# EAGLE library part 62505022021 (library Wurth_Elektronik_Electromechanic_Wire_to_Board_Connectors_rev15c)
WR-BHD 2.00mm Male Box Header With Lever, 50 Pins=>Code : Con_WTB_BHD_2.00_Male_THT_62505022021 <http://katalog.we-online.de/media/thumbs2/eican/thb_Con_WTB_BHD_2.00_Male_THT_6250xx22021_pf2.jpg> Details see: http://katalog.we-online.de/en/em/625_0xx_220_21 Created 2014-06-05, Karrer Zheng 2014 (C) Würth Elektronik
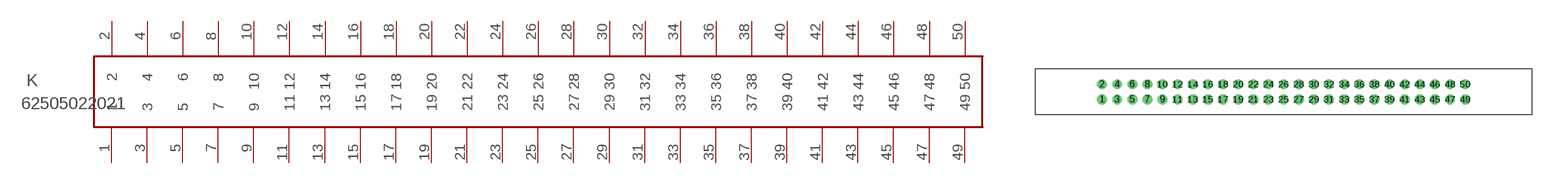
[diagram p261: symbol with the pads of 62505022021; footprint 62505022021]

Designator prefix K

## 62505022021  [62505022021]
1  1  pas
2  2  pas
3  3  pas
4  4  pas
5  5  pas
6  6  pas
7  7  pas
8  8  pas
9  9  pas
10  10  pas
11  11  pas
12  12  pas
13  13  pas
14  14  pas
15  15  pas
16  16  pas
17  17  pas
18  18  pas
19  19  pas
20  20  pas
21  21  pas
22  22  pas
23  23  pas
24  24  pas
25  25  pas
26  26  pas
27  27  pas
28  28  pas
29  29  pas
30  30  pas
31  31  pas
32  32  pas
33  33  pas
34  34  pas
35  35  pas
36  36  pas
37  37  pas
38  38  pas
39  39  pas
40  40  pas
41  41  pas
42  42  pas
43  43  pas
44  44  pas
45  45  pas
46  46  pas
47  47  pas
48  48  pas
49  49  pas
50  50  pas

## Footprint 62505022021 (pad centres in mm)
WR-BHD-2.00mm Male Box Header With Lever,50 pins
drill 0.8: 1 -24.24,-1; 2 -24.24,1; 3 -22.24,-1; 4 -22.24,1; 5 -20.24,-1; 6 -20.24,1; 7 -18.24,-1; 8 -18.24,1; 9 -16.24,-1; 10 -16.24,1; 11 -14.24,-1; 12 -14.24,1; 13 -12.24,-1; 14 -12.24,1; 15 -10.24,-1; 16 -10.24,1; 17 -8.24,-1; 18 -8.24,1; 19 -6.24,-1; 20 -6.24,1; 21 -4.24,-1; 22 -4.24,1; 23 -2.24,-1; 24 -2.24,1; 25 -0.24,-1; 26 -0.24,1; 27 1.76,-1; 28 1.76,1; 29 3.76,-1; 30 3.76,1; 31 5.76,-1; 32 5.76,1; 33 7.76,-1; 34 7.76,1; 35 9.76,-1; 36 9.76,1; 37 11.76,-1; 38 11.76,1; 39 13.76,-1; 40 13.76,1; 41 15.76,-1; 42 15.76,1; 43 17.76,-1; 44 17.76,1; 45 19.76,-1; 46 19.76,1; 47 21.76,-1; 48 21.76,1; 49 23.76,-1; 50 23.76,1